# EAGLE library part MACETECH_FT230X (library RGBShadesControllerV30)
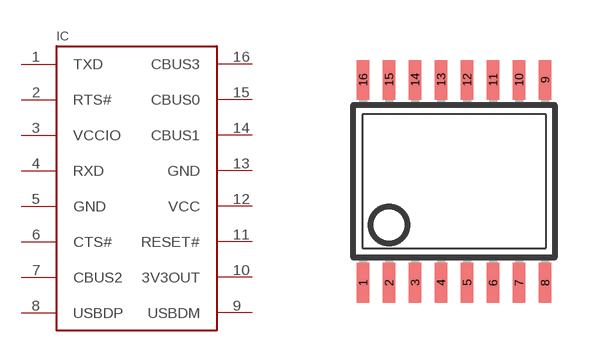
[diagram p1: symbol with the pads of MACETECH_SSOP16; footprint MACETECH_SSOP16]

Designator prefix IC

## MACETECH_FT230X  [MACETECH_SSOP16]
1  TXD
2  RTS#
3  VCCIO
4  RXD
5  GND
6  CTS#
7  CBUS2
8  USBDP
9  USBDM
10  3V3OUT
11  RESET#
12  VCC
13  GND
14  CBUS1
15  CBUS0
16  CBUS3

## Footprint MACETECH_SSOP16 (pad centres in mm)
smd 0.305 x 0.991: 1 -2.275,-2.537; 2 -1.625,-2.537; 3 -0.975,-2.537; 4 -0.325,-2.537; 5 0.325,-2.537; 6 0.975,-2.537; 7 1.625,-2.537; 8 2.275,-2.537; 9 2.275,2.537; 10 1.625,2.537; 11 0.975,2.537; 12 0.325,2.537; 13 -0.325,2.537; 14 -0.975,2.537; 15 -1.625,2.537; 16 -2.275,2.537